# EAGLE library part NE555DR (library IC)
IC OSC SGL TIMER 100KHZ 8-SOIC Manufacturer's datasheet <http://www.ti.com/general/docs/suppproductinfo.tsp?distId=10&gotoUrl=http%3A%2F%2Fwww.ti.com%2Flit%2Fgpn%2Fne555>
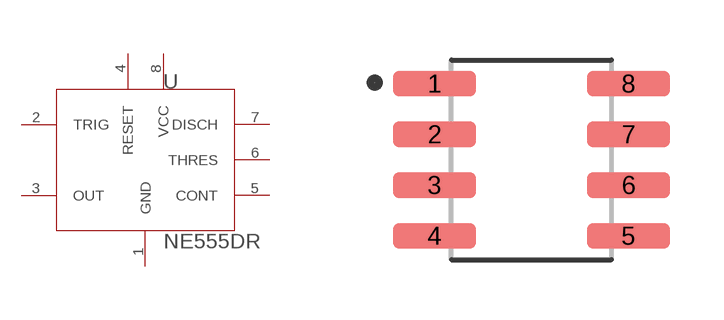
[diagram p7: symbol with the pads of SOIC-8N; footprint SOIC-8N]

Designator prefix U

## NE555DR (CREATED_BY: PCBLayout.com; DIGI-KEY_PART: 296-6501-1-ND; MANUFACTURER: Texas Instruments; MPN: NE555DR; PACKAGE: SOIC-8)  [SOIC-8N]
1  GND  pwr
2  TRIG  in
3  OUT  out
4  RESET  in
5  CONT
6  THRES  in
7  DISCH  out
8  VCC  pwr

## Footprint SOIC-8N (pad centres in mm)
Small Outline IC (SOIC), 1.27 mm pitch; 8 pin, 4.90 mm L X 3.90 mm W X 1.75 mm H body PCB Libraries Packages
smd 2.07 x 0.65: 1 -2.425,1.905; 2 -2.425,0.635; 3 -2.425,-0.635; 4 -2.425,-1.905; 5 2.425,-1.905; 6 2.425,-0.635; 7 2.425,0.635; 8 2.425,1.905